# Altium footprint library Electro-Mechanical.PcbLib: 24 footprints (part 1 of 2)
Each footprint in its own frame and in the unit in brackets; x right, y up, seen from the top. Pads: shape width x height; smd on the part's side, far side on the other; paste and mask are expansions set on the pad; w line width, h text height; cw(c..) or ccw(c..) is an arc to the next point about the centre after c.
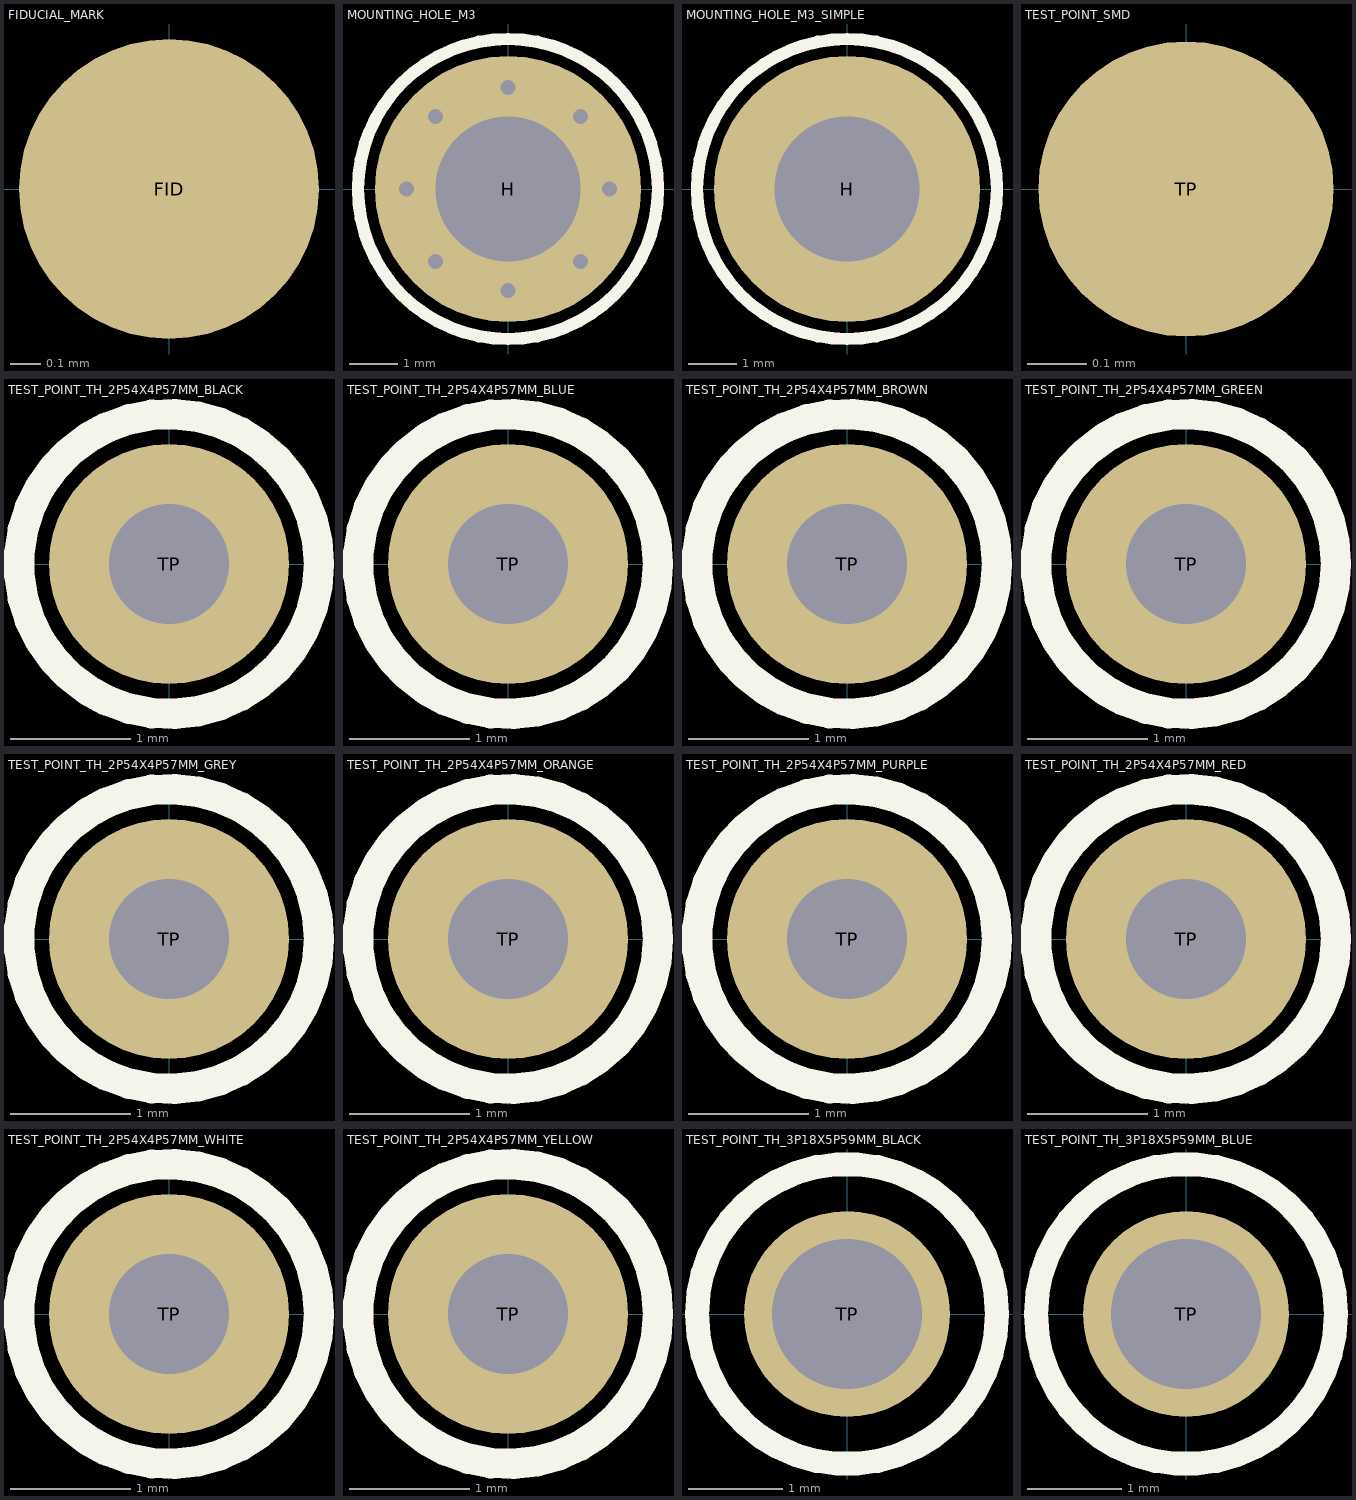
[diagram p0: the footprints below, top view; thin cyan lines are the x and y axes]

## FIDUCIAL_MARK [mm]
pads (1):
  round 1 smd mask+1: FID(0,0)
3D body: height -0.1, standoff -0.2, extent -0.5,-0.5 0.5,0.5

## MOUNTING_HOLE_M3 [mm]
pads (1):
  round 5.5 hole 3: H(0,0)
via -2.1,0 diameter 0.61 hole 0.305
via -1.5,-1.5 diameter 0.61 hole 0.305
via 0,-2.1 diameter 0.61 hole 0.305
via 1.5,-1.5 diameter 0.61 hole 0.305
via 2.1,0 diameter 0.61 hole 0.305
via 1.5,1.5 diameter 0.61 hole 0.305
via -1.5,1.5 diameter 0.61 hole 0.305
via 0,2.1 diameter 0.61 hole 0.305
Top Overlay:
  circle w0.254: c0,0 r3.1

## MOUNTING_HOLE_M3_SIMPLE [mm]
pads (1):
  round 5.5 hole 3: H(0,0)
Top Overlay:
  circle w0.254: c0,0 r3.1

## TEST_POINT_SMD [mm]
pads (1):
  round 0.5 smd: TP(0,0)

## TEST_POINT_TH_2P54X4P57MM_BLACK [mm]
pads (1):
  round 2 hole 1: TP(0,0)
Top Overlay:
  circle w0.254: c0,0 r1.25
3D body "Test Point Keystone - 5001 BLACK.STEP": height 4.56, standoff -3.05, extent -1.27,-1.261 1.27,1.261

## TEST_POINT_TH_2P54X4P57MM_BLUE [mm]
pads (1):
  round 2 hole 1: TP(0,0)
Top Overlay:
  circle w0.254: c0,0 r1.25
3D body "Test Point Keystone - 5117 BLUE.STEP": height 4.56, standoff -3.05, extent -1.27,-1.261 1.27,1.261

## TEST_POINT_TH_2P54X4P57MM_BROWN [mm]
pads (1):
  round 2 hole 1: TP(0,0)
Top Overlay:
  circle w0.254: c0,0 r1.25
3D body "Test Point Keystone - 5115 BROWN.STEP": height 4.56, standoff -3.05, extent -1.27,-1.261 1.27,1.261

## TEST_POINT_TH_2P54X4P57MM_GREEN [mm]
pads (1):
  round 2 hole 1: TP(0,0)
Top Overlay:
  circle w0.254: c0,0 r1.25
3D body "Test Point Keystone - 5116 GREEN.STEP": height 4.56, standoff -3.05, extent -1.27,-1.261 1.27,1.261

## TEST_POINT_TH_2P54X4P57MM_GREY [mm]
pads (1):
  round 2 hole 1: TP(0,0)
Top Overlay:
  circle w0.254: c0,0 r1.25
3D body "Test Point Keystone - 5118 GREY.STEP": height 4.56, standoff -3.05, extent -1.27,-1.261 1.27,1.261

## TEST_POINT_TH_2P54X4P57MM_ORANGE [mm]
pads (1):
  round 2 hole 1: TP(0,0)
Top Overlay:
  circle w0.254: c0,0 r1.25
3D body "Test Point Keystone - 5003 ORANGE.STEP": height 4.56, standoff -3.05, extent -1.27,-1.261 1.27,1.261

## TEST_POINT_TH_2P54X4P57MM_PURPLE [mm]
pads (1):
  round 2 hole 1: TP(0,0)
Top Overlay:
  circle w0.254: c0,0 r1.25
3D body "Test Point Keystone - 5119 PURPLE.STEP": height 4.56, standoff -3.05, extent -1.27,-1.261 1.27,1.261

## TEST_POINT_TH_2P54X4P57MM_RED [mm]
pads (1):
  round 2 hole 1: TP(0,0)
Top Overlay:
  circle w0.254: c0,0 r1.25
3D body "Test Point Keystone - 5000 RED.STEP": height 4.56, standoff -3.05, extent -1.27,-1.261 1.27,1.261

## TEST_POINT_TH_2P54X4P57MM_WHITE [mm]
pads (1):
  round 2 hole 1: TP(0,0)
Top Overlay:
  circle w0.254: c0,0 r1.25
3D body "Test Point Keystone - 5002 WHITE.STEP": height 4.56, standoff -3.05, extent -1.27,-1.261 1.27,1.261

## TEST_POINT_TH_2P54X4P57MM_YELLOW [mm]
pads (1):
  round 2 hole 1: TP(0,0)
Top Overlay:
  circle w0.254: c0,0 r1.25
3D body "Test Point Keystone - 5004 YELLOW.STEP": height 4.56, standoff -3.05, extent -1.27,-1.261 1.27,1.261

## TEST_POINT_TH_3P18X5P59MM_BLACK [mm]
pads (1):
  round 2.2 hole 1.6: TP(0,0)
Top Overlay:
  circle w0.254: c0,0 r1.6
3D body "5006 (Black).step": height 5.59, standoff -3.3, extent -1.59,-1.578 1.59,1.578

## TEST_POINT_TH_3P18X5P59MM_BLUE [mm]
pads (1):
  round 2.2 hole 1.6: TP(0,0)
Top Overlay:
  circle w0.254: c0,0 r1.6
3D body "5122 (Blue).step": height 5.59, standoff -3.3, extent -1.59,-1.578 1.59,1.578